# EAGLE library part AD5754RBREZ (library PulsePalSMT_Rev_0_5)
DAC
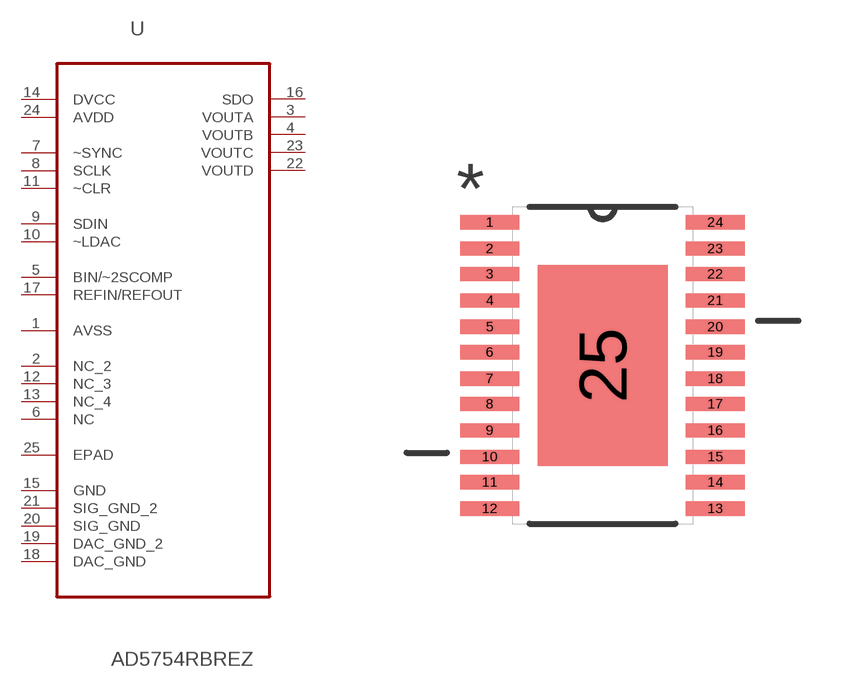
[diagram p0: symbol with the pads of SOP65P640X120-25N; footprint SOP65P640X120-25N]

Designator prefix U

## AD5754RBREZ (MPN: AD5754RBREZ; OC_FARNELL: 1786050; OC_NEWARK: 51P3755; PACKAGE: TSSOP-24; SUPPLIER: Analog Devices)  [SOP65P640X120-25N]
1  AVSS  pwr
2  NC_2  nc
3  VOUTA  out
4  VOUTB  out
5  BIN/~2SCOMP  in
6  NC  nc
7  ~SYNC  in
8  SCLK  in
9  SDIN  in
10  ~LDAC  in
11  ~CLR  in
12  NC_3  nc
13  NC_4  nc
14  DVCC  pwr
15  GND  pas
16  SDO  out
17  REFIN/REFOUT
18  DAC_GND  pas
19  DAC_GND_2  pas
20  SIG_GND  pas
21  SIG_GND_2  pas
22  VOUTD  out
23  VOUTC  out
24  AVDD  pwr
25  EPAD  pwr

## Footprint SOP65P640X120-25N (pad centres in mm)
smd 1.473 x 0.356: 1 -2.819,3.581; 2 -2.819,2.921; 3 -2.819,2.286; 4 -2.819,1.626; 5 -2.819,0.965; 6 -2.819,0.33; 7 -2.819,-0.33; 8 -2.819,-0.965; 9 -2.819,-1.626; 10 -2.819,-2.286; 11 -2.819,-2.921; 12 -2.819,-3.581; 13 2.819,-3.581; 14 2.819,-2.921; 15 2.819,-2.286; 16 2.819,-1.626; 17 2.819,-0.965; 18 2.819,-0.33; 19 2.819,0.33; 20 2.819,0.965; 21 2.819,1.626; 22 2.819,2.286; 23 2.819,2.921; 24 2.819,3.581
smd 3.251 x 5.029: 25 0,0